# Altium footprint library MyPcbLib.PcbLib: 6 footprints
Each footprint in its own frame and in the unit in brackets; x right, y up, seen from the top. Pads: shape width x height; smd on the part's side, far side on the other; paste and mask are expansions set on the pad; w line width, h text height; cw(c..) or ccw(c..) is an arc to the next point about the centre after c.
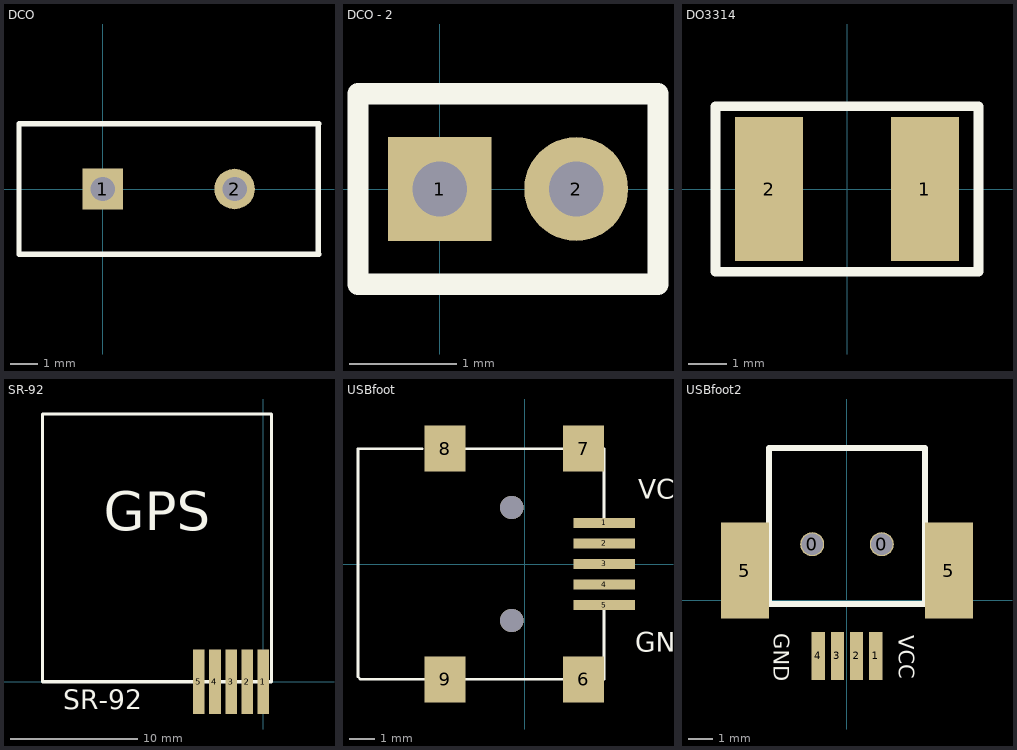
[diagram p0: the footprints below, top view; thin cyan lines are the x and y axes]

## DCO [mm] "D Crystal Oscillator"
height 2.54
pads (2):
  rect 1.5x1.5 hole 0.9: 1(0,0)
  round 1.5 hole 0.9: 2(4.88,0)
Top Overlay:
  lines w0.2: 7.976,-2.413 7.976,2.413 ; 8.001,-2.413 -3.099,-2.413 -3.099,2.413 8.001,2.413

## DCO - 2 [mil] "D Crystal Oscillator"
height 500
pads (2):
  rect 38.05x38.05 hole 20: 1(0,0)
  round 38.05 hole 20: 2(50,0)
Top Overlay:
  lines w7.87: -30,-35 80,-35 80,35 -30,35 -30,-35

## DO3314 [mil]
height 55
pads (2):
  rect 70x148 smd: 1(80,0) 2(-80,0)
Top Overlay:
  lines w10: -135,-85 -135,85 135,85 135,-85 -135,-85

## SR-92 [mil] "GPS module SR-92"
height 200
pads (5):
  rect 36x200 smd: 1(0,0) 2(-50,0) 3(-100,0) 4(-150,0) 5(-200,0)
Top Overlay:
  lines w10: -685,0 -685,830 25,830 25,0 -685,0
  text "GPS" at -495,470 h120
  text "SR-92" at -620,-85 h60

## USBfoot [mm]
pads (9):
  rect 2.4x0.4 smd: 1(3.1,1.6) 2(3.1,0.8) 3(3.1,0) 4(3.1,-0.8) 5(3.1,-1.6)
  rect 1.6x1.8 smd: 6(2.3,-4.5) 7(2.3,4.5) 8(-3.1,4.5) 9(-3.1,-4.5)
via -0.5,-2.2 diameter 0.9 hole 0.9
via -0.5,2.2 diameter 0.9 hole 0.9
Top Overlay:
  lines w0.1: -4,4.5 -6.5,4.5 -6.5,-4.4 -6.4,-4.5 -3.9,-4.5 ; -2.3,-4.5 1.5,-4.5 ; -2.3,4.5 1.5,4.5 ; 3.1,-4.5 3.1,-1.8 ; 3.1,1.8 3.1,4.5
  text "GND" at 4.318,-3.429 h0.76
  text "VCC" at 4.445,2.54 h0.76

## USBfoot2 [mm]
pads (8):
  round 1 hole 0.9: 0(-1.45,2.325) 0(1.45,2.325)
  rect 0.55x2 smd: 1(1.2,-2.325) 2(0.4,-2.325) 3(-0.4,-2.325) 4(-1.2,-2.325)
  rect 2x4 smd: 5(-4.25,1.225) 5(4.25,1.225)
Top Overlay:
  lines w0.254: -3.25,-0.175 -3.25,6.325 3.25,6.325 3.25,-0.175 -3.25,-0.175
  text "VCC" at 2.15,-1.475 h0.64
  text "GND" at -3.05,-1.375 h0.64